# Altium footprint library MLACHP_P.PCBLIB: 129 footprints (part 6 of 9)
Each footprint in its own frame and in the unit in brackets; x right, y up, seen from the top. Pads: shape width x height; smd on the part's side, far side on the other; paste and mask are expansions set on the pad; w line width, h text height; cw(c..) or ccw(c..) is an arc to the next point about the centre after c.
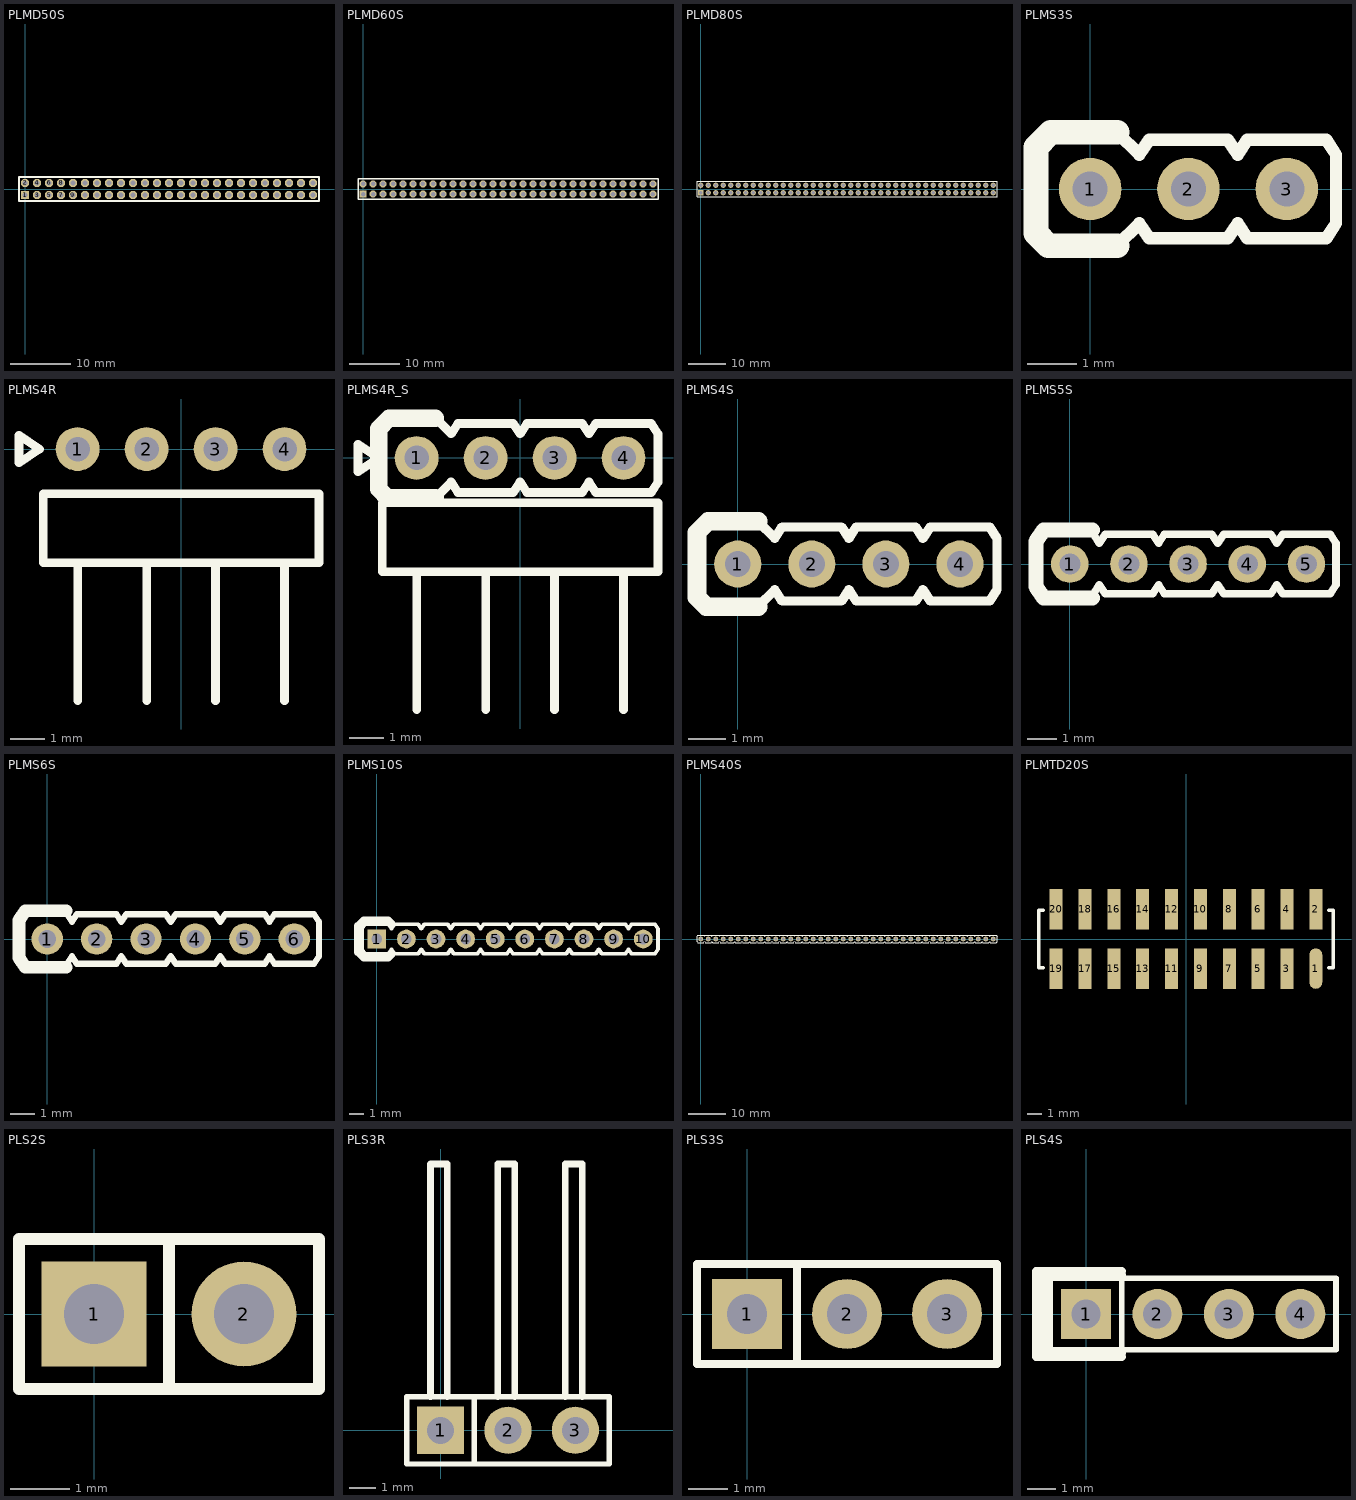
[diagram p5: the footprints below, top view; thin cyan lines are the x and y axes]

## PLMD50S [mm]
pads (50):
  rect 1.4x1.4 hole 0.9: 1(0,-1)
  round 1.4 hole 0.9: 2(0,1) 3(2,-1) 4(2,1) 5(4,-1) 6(4,1) 7(6,-1) 8(6,1) 9(8,-1) 10(8,1) 11(10,-1) 12(10,1) 13(12,-1) 14(12,1) 15(14,-1) 16(14,1) 17(16,-1) 18(16,1) 19(18,-1) 20(18,1) 21(20,-1) 22(20,1) 23(22,-1) 24(22,1) 25(24,-1) 26(24,1) 27(26,-1) 28(26,1) 29(28,-1) 30(28,1) 31(30,-1) 32(30,1) 33(32,-1) 34(32,1) 35(34,-1) 36(34,1) 37(36,-1) 38(36,1) 39(38,-1) 40(38,1) 41(40,-1) 42(40,1) 43(42,-1) 44(42,1) 45(44,-1) 46(44,1) 47(46,-1) 48(46,1) 49(48,-1) 50(48,1)
TopOverlay:
  lines w0.254: -1,-2 -1,2 39,2 49,2 49,-2 39,-2 -1,-2
3D body: height 2, standoff 0, extent 39,-2 49,2
3D body: height 6, standoff -2.8, extent 39.75,0.75 40.25,1.25
3D body: height 6, standoff -2.8, extent 39.75,-1.25 40.25,-0.75
3D body: height 6, standoff -2.8, extent 41.75,-1.25 42.25,-0.75
3D body: height 6, standoff -2.8, extent 41.75,0.75 42.25,1.25
3D body: height 6, standoff -2.8, extent 43.75,-1.25 44.25,-0.75
3D body: height 6, standoff -2.8, extent 43.75,0.75 44.25,1.25
3D body: height 6, standoff -2.8, extent 45.75,-1.25 46.25,-0.75
3D body: height 6, standoff -2.8, extent 45.75,0.75 46.25,1.25
3D body: height 6, standoff -2.8, extent 47.75,-1.25 48.25,-0.75
3D body: height 6, standoff -2.8, extent 47.75,0.75 48.25,1.25
3D body: height 6, standoff -2.8, extent 37.75,-1.25 38.25,-0.75
3D body: height 6, standoff -2.8, extent 37.75,0.75 38.25,1.25
3D body: height 6, standoff -2.8, extent 35.75,-1.25 36.25,-0.75
3D body: height 6, standoff -2.8, extent 35.75,0.75 36.25,1.25
3D body: height 6, standoff -2.8, extent 33.75,-1.25 34.25,-0.75
3D body: height 6, standoff -2.8, extent 33.75,0.75 34.25,1.25
3D body: height 6, standoff -2.8, extent 31.75,-1.25 32.25,-0.75
3D body: height 6, standoff -2.8, extent 31.75,0.75 32.25,1.25
3D body: height 6, standoff -2.8, extent 29.75,-1.25 30.25,-0.75
3D body: height 6, standoff -2.8, extent 29.75,0.75 30.25,1.25
3D body: height 6, standoff -2.8, extent 27.75,-1.25 28.25,-0.75
3D body: height 6, standoff -2.8, extent 27.75,0.75 28.25,1.25
3D body: height 6, standoff -2.8, extent 25.75,-1.25 26.25,-0.75
3D body: height 6, standoff -2.8, extent 25.75,0.75 26.25,1.25
3D body: height 6, standoff -2.8, extent 23.75,0.75 24.25,1.25
3D body: height 6, standoff -2.8, extent 23.75,-1.25 24.25,-0.75
3D body: height 6, standoff -2.8, extent 21.75,0.75 22.25,1.25
3D body: height 6, standoff -2.8, extent 21.75,-1.25 22.25,-0.75
3D body: height 6, standoff -2.8, extent 19.75,0.75 20.25,1.25
3D body: height 6, standoff -2.8, extent 19.75,-1.25 20.25,-0.75
3D body: height 6, standoff -2.8, extent 17.75,0.75 18.25,1.25
3D body: height 6, standoff -2.8, extent 17.75,-1.25 18.25,-0.75
3D body: height 6, standoff -2.8, extent 15.75,0.75 16.25,1.25
3D body: height 6, standoff -2.8, extent 15.75,-1.25 16.25,-0.75
3D body: height 6, standoff -2.8, extent 13.75,0.75 14.25,1.25
3D body: height 6, standoff -2.8, extent 13.75,-1.25 14.25,-0.75
3D body: height 6, standoff -2.8, extent 11.75,0.75 12.25,1.25
3D body: height 6, standoff -2.8, extent 11.75,-1.25 12.25,-0.75
3D body: height 6, standoff -2.8, extent 9.75,0.75 10.25,1.25
3D body: height 6, standoff -2.8, extent 9.75,-1.25 10.25,-0.75
3D body: height 6, standoff -2.8, extent 7.75,0.75 8.25,1.25
3D body: height 6, standoff -2.8, extent 7.75,-1.25 8.25,-0.75
3D body: height 6, standoff -2.8, extent 5.75,0.75 6.25,1.25
3D body: height 6, standoff -2.8, extent 5.75,-1.25 6.25,-0.75
3D body: height 6, standoff -2.8, extent 3.75,0.75 4.25,1.25
3D body: height 6, standoff -2.8, extent 3.75,-1.25 4.25,-0.75
3D body: height 6, standoff -2.8, extent 1.75,0.75 2.25,1.25
3D body: height 6, standoff -2.8, extent 1.75,-1.25 2.25,-0.75
3D body: height 6, standoff -2.8, extent -0.25,-1.25 0.25,-0.75
3D body: height 6, standoff -2.8, extent -0.25,0.75 0.25,1.25
3D body: height 2, standoff 0, extent -1,-2 39,2

## PLMD60S [mm]
pads (60):
  rect 1.4x1.4 hole 0.9: 1(0,-1)
  round 1.4 hole 0.9: 2(0,1) 3(2,-1) 4(2,1) 5(4,-1) 6(4,1) 7(6,-1) 8(6,1) 9(8,-1) 10(8,1) 11(10,-1) 12(10,1) 13(12,-1) 14(12,1) 15(14,-1) 16(14,1) 17(16,-1) 18(16,1) 19(18,-1) 20(18,1) 21(20,-1) 22(20,1) 23(22,-1) 24(22,1) 25(24,-1) 26(24,1) 27(26,-1) 28(26,1) 29(28,-1) 30(28,1) 31(30,-1) 32(30,1) 33(32,-1) 34(32,1) 35(34,-1) 36(34,1) 37(36,-1) 38(36,1) 39(38,-1) 40(38,1) 41(40,-1) 42(40,1) 43(42,-1) 44(42,1) 45(44,-1) 46(44,1) 47(46,-1) 48(46,1) 49(48,-1) 50(48,1) 51(50,-1) 52(50,1) 53(52,-1) 54(52,1) 55(54,-1) 56(54,1) 57(56,-1) 58(56,1) 59(58,-1) 60(58,1)
TopOverlay:
  lines w0.254: -1,-2 -1,2 39,2 59,2 59,-2 39,-2 -1,-2
3D body: height 2, standoff 0, extent 39,-2 59,2
3D body: height 6, standoff -2.8, extent 39.75,0.75 40.25,1.25
3D body: height 6, standoff -2.8, extent 39.75,-1.25 40.25,-0.75
3D body: height 6, standoff -2.8, extent 41.75,-1.25 42.25,-0.75
3D body: height 6, standoff -2.8, extent 41.75,0.75 42.25,1.25
3D body: height 6, standoff -2.8, extent 43.75,-1.25 44.25,-0.75
3D body: height 6, standoff -2.8, extent 43.75,0.75 44.25,1.25
3D body: height 6, standoff -2.8, extent 45.75,-1.25 46.25,-0.75
3D body: height 6, standoff -2.8, extent 45.75,0.75 46.25,1.25
3D body: height 6, standoff -2.8, extent 47.75,-1.25 48.25,-0.75
3D body: height 6, standoff -2.8, extent 47.75,0.75 48.25,1.25
3D body: height 6, standoff -2.8, extent 49.75,-1.25 50.25,-0.75
3D body: height 6, standoff -2.8, extent 49.75,0.75 50.25,1.25
3D body: height 6, standoff -2.8, extent 51.75,-1.25 52.25,-0.75
3D body: height 6, standoff -2.8, extent 51.75,0.75 52.25,1.25
3D body: height 6, standoff -2.8, extent 53.75,-1.25 54.25,-0.75
3D body: height 6, standoff -2.8, extent 53.75,0.75 54.25,1.25
3D body: height 6, standoff -2.8, extent 55.75,-1.25 56.25,-0.75
3D body: height 6, standoff -2.8, extent 55.75,0.75 56.25,1.25
3D body: height 6, standoff -2.8, extent 57.75,-1.25 58.25,-0.75
3D body: height 6, standoff -2.8, extent 57.75,0.75 58.25,1.25
3D body: height 6, standoff -2.8, extent 37.75,-1.25 38.25,-0.75
3D body: height 6, standoff -2.8, extent 37.75,0.75 38.25,1.25
3D body: height 6, standoff -2.8, extent 35.75,-1.25 36.25,-0.75
3D body: height 6, standoff -2.8, extent 35.75,0.75 36.25,1.25
3D body: height 6, standoff -2.8, extent 33.75,-1.25 34.25,-0.75
3D body: height 6, standoff -2.8, extent 33.75,0.75 34.25,1.25
3D body: height 6, standoff -2.8, extent 31.75,-1.25 32.25,-0.75
3D body: height 6, standoff -2.8, extent 31.75,0.75 32.25,1.25
3D body: height 6, standoff -2.8, extent 29.75,-1.25 30.25,-0.75
3D body: height 6, standoff -2.8, extent 29.75,0.75 30.25,1.25
3D body: height 6, standoff -2.8, extent 27.75,-1.25 28.25,-0.75
3D body: height 6, standoff -2.8, extent 27.75,0.75 28.25,1.25
3D body: height 6, standoff -2.8, extent 25.75,-1.25 26.25,-0.75
3D body: height 6, standoff -2.8, extent 25.75,0.75 26.25,1.25
3D body: height 6, standoff -2.8, extent 23.75,0.75 24.25,1.25
3D body: height 6, standoff -2.8, extent 23.75,-1.25 24.25,-0.75
3D body: height 6, standoff -2.8, extent 21.75,0.75 22.25,1.25
3D body: height 6, standoff -2.8, extent 21.75,-1.25 22.25,-0.75
3D body: height 6, standoff -2.8, extent 19.75,0.75 20.25,1.25
3D body: height 6, standoff -2.8, extent 19.75,-1.25 20.25,-0.75
3D body: height 6, standoff -2.8, extent 17.75,0.75 18.25,1.25
3D body: height 6, standoff -2.8, extent 17.75,-1.25 18.25,-0.75
3D body: height 6, standoff -2.8, extent 15.75,0.75 16.25,1.25
3D body: height 6, standoff -2.8, extent 15.75,-1.25 16.25,-0.75
3D body: height 6, standoff -2.8, extent 13.75,0.75 14.25,1.25
3D body: height 6, standoff -2.8, extent 13.75,-1.25 14.25,-0.75
3D body: height 6, standoff -2.8, extent 11.75,0.75 12.25,1.25
3D body: height 6, standoff -2.8, extent 11.75,-1.25 12.25,-0.75
3D body: height 6, standoff -2.8, extent 9.75,0.75 10.25,1.25
3D body: height 6, standoff -2.8, extent 9.75,-1.25 10.25,-0.75
3D body: height 6, standoff -2.8, extent 7.75,0.75 8.25,1.25
3D body: height 6, standoff -2.8, extent 7.75,-1.25 8.25,-0.75
3D body: height 6, standoff -2.8, extent 5.75,0.75 6.25,1.25
3D body: height 6, standoff -2.8, extent 5.75,-1.25 6.25,-0.75
3D body: height 6, standoff -2.8, extent 3.75,0.75 4.25,1.25
3D body: height 6, standoff -2.8, extent 3.75,-1.25 4.25,-0.75
3D body: height 6, standoff -2.8, extent 1.75,0.75 2.25,1.25
3D body: height 6, standoff -2.8, extent 1.75,-1.25 2.25,-0.75
3D body: height 6, standoff -2.8, extent -0.25,-1.25 0.25,-0.75
3D body: height 6, standoff -2.8, extent -0.25,0.75 0.25,1.25
3D body: height 2, standoff 0, extent -1,-2 39,2

## PLMD80S [mm]
pads (80):
  rect 1.4x1.4 hole 0.9: 1(0,-1)
  round 1.4 hole 0.9: 2(0,1) 3(2,-1) 4(2,1) 5(4,-1) 6(4,1) 7(6,-1) 8(6,1) 9(8,-1) 10(8,1) 11(10,-1) 12(10,1) 13(12,-1) 14(12,1) 15(14,-1) 16(14,1) 17(16,-1) 18(16,1) 19(18,-1) 20(18,1) 21(20,-1) 22(20,1) 23(22,-1) 24(22,1) 25(24,-1) 26(24,1) 27(26,-1) 28(26,1) 29(28,-1) 30(28,1) 31(30,-1) 32(30,1) 33(32,-1) 34(32,1) 35(34,-1) 36(34,1) 37(36,-1) 38(36,1) 39(38,-1) 40(38,1) 41(40,-1) 42(40,1) 43(42,-1) 44(42,1) 45(44,-1) 46(44,1) 47(46,-1) 48(46,1) 49(48,-1) 50(48,1) 51(50,-1) 52(50,1) 53(52,-1) 54(52,1) 55(54,-1) 56(54,1) 57(56,-1) 58(56,1) 59(58,-1) 60(58,1) 61(60,-1) 62(60,1) 63(62,-1) 64(62,1) 65(64,-1) 66(64,1) 67(66,-1) 68(66,1) 69(68,-1) 70(68,1) 71(70,-1) 72(70,1) 73(72,-1) 74(72,1) 75(74,-1) 76(74,1) 77(76,-1) 78(76,1) 79(78,-1) 80(78,1)
TopOverlay:
  lines w0.254: -1,-2 39,-2 79,-2 79,2 39,2 -1,2 -1,-2
3D body: height 2, standoff 0, extent -1,-2 39,2
3D body: height 6, standoff -2.8, extent -0.25,0.75 0.25,1.25
3D body: height 6, standoff -2.8, extent -0.25,-1.25 0.25,-0.75
3D body: height 6, standoff -2.8, extent 1.75,-1.25 2.25,-0.75
3D body: height 6, standoff -2.8, extent 1.75,0.75 2.25,1.25
3D body: height 6, standoff -2.8, extent 3.75,-1.25 4.25,-0.75
3D body: height 6, standoff -2.8, extent 3.75,0.75 4.25,1.25
3D body: height 6, standoff -2.8, extent 5.75,-1.25 6.25,-0.75
3D body: height 6, standoff -2.8, extent 5.75,0.75 6.25,1.25
3D body: height 6, standoff -2.8, extent 7.75,-1.25 8.25,-0.75
3D body: height 6, standoff -2.8, extent 7.75,0.75 8.25,1.25
3D body: height 6, standoff -2.8, extent 9.75,-1.25 10.25,-0.75
3D body: height 6, standoff -2.8, extent 9.75,0.75 10.25,1.25
3D body: height 6, standoff -2.8, extent 11.75,-1.25 12.25,-0.75
3D body: height 6, standoff -2.8, extent 11.75,0.75 12.25,1.25
3D body: height 6, standoff -2.8, extent 13.75,-1.25 14.25,-0.75
3D body: height 6, standoff -2.8, extent 13.75,0.75 14.25,1.25
3D body: height 6, standoff -2.8, extent 15.75,-1.25 16.25,-0.75
3D body: height 6, standoff -2.8, extent 15.75,0.75 16.25,1.25
3D body: height 6, standoff -2.8, extent 17.75,-1.25 18.25,-0.75
3D body: height 6, standoff -2.8, extent 17.75,0.75 18.25,1.25
3D body: height 6, standoff -2.8, extent 19.75,-1.25 20.25,-0.75
3D body: height 6, standoff -2.8, extent 19.75,0.75 20.25,1.25
3D body: height 6, standoff -2.8, extent 21.75,-1.25 22.25,-0.75
3D body: height 6, standoff -2.8, extent 21.75,0.75 22.25,1.25
3D body: height 6, standoff -2.8, extent 23.75,-1.25 24.25,-0.75
3D body: height 6, standoff -2.8, extent 23.75,0.75 24.25,1.25
3D body: height 6, standoff -2.8, extent 25.75,0.75 26.25,1.25
3D body: height 6, standoff -2.8, extent 25.75,-1.25 26.25,-0.75
3D body: height 6, standoff -2.8, extent 27.75,0.75 28.25,1.25
3D body: height 6, standoff -2.8, extent 27.75,-1.25 28.25,-0.75
3D body: height 6, standoff -2.8, extent 29.75,0.75 30.25,1.25
3D body: height 6, standoff -2.8, extent 29.75,-1.25 30.25,-0.75
3D body: height 6, standoff -2.8, extent 31.75,0.75 32.25,1.25
3D body: height 6, standoff -2.8, extent 31.75,-1.25 32.25,-0.75
3D body: height 6, standoff -2.8, extent 33.75,0.75 34.25,1.25
3D body: height 6, standoff -2.8, extent 33.75,-1.25 34.25,-0.75
3D body: height 6, standoff -2.8, extent 35.75,0.75 36.25,1.25
3D body: height 6, standoff -2.8, extent 35.75,-1.25 36.25,-0.75
3D body: height 6, standoff -2.8, extent 37.75,0.75 38.25,1.25
3D body: height 6, standoff -2.8, extent 37.75,-1.25 38.25,-0.75
3D body: height 6, standoff -2.8, extent 77.75,-1.25 78.25,-0.75
3D body: height 6, standoff -2.8, extent 77.75,0.75 78.25,1.25
3D body: height 6, standoff -2.8, extent 75.75,-1.25 76.25,-0.75
3D body: height 6, standoff -2.8, extent 75.75,0.75 76.25,1.25
3D body: height 6, standoff -2.8, extent 73.75,-1.25 74.25,-0.75
3D body: height 6, standoff -2.8, extent 73.75,0.75 74.25,1.25
3D body: height 6, standoff -2.8, extent 71.75,-1.25 72.25,-0.75
3D body: height 6, standoff -2.8, extent 71.75,0.75 72.25,1.25
3D body: height 6, standoff -2.8, extent 69.75,-1.25 70.25,-0.75
3D body: height 6, standoff -2.8, extent 69.75,0.75 70.25,1.25
3D body: height 6, standoff -2.8, extent 67.75,-1.25 68.25,-0.75
3D body: height 6, standoff -2.8, extent 67.75,0.75 68.25,1.25
3D body: height 6, standoff -2.8, extent 65.75,-1.25 66.25,-0.75
3D body: height 6, standoff -2.8, extent 65.75,0.75 66.25,1.25
3D body: height 6, standoff -2.8, extent 63.75,0.75 64.25,1.25
3D body: height 6, standoff -2.8, extent 63.75,-1.25 64.25,-0.75
3D body: height 6, standoff -2.8, extent 61.75,0.75 62.25,1.25
3D body: height 6, standoff -2.8, extent 61.75,-1.25 62.25,-0.75
3D body: height 6, standoff -2.8, extent 59.75,0.75 60.25,1.25
3D body: height 6, standoff -2.8, extent 59.75,-1.25 60.25,-0.75
3D body: height 6, standoff -2.8, extent 57.75,0.75 58.25,1.25
3D body: height 6, standoff -2.8, extent 57.75,-1.25 58.25,-0.75
3D body: height 6, standoff -2.8, extent 55.75,0.75 56.25,1.25
3D body: height 6, standoff -2.8, extent 55.75,-1.25 56.25,-0.75
3D body: height 6, standoff -2.8, extent 53.75,0.75 54.25,1.25
3D body: height 6, standoff -2.8, extent 53.75,-1.25 54.25,-0.75
3D body: height 6, standoff -2.8, extent 51.75,0.75 52.25,1.25
3D body: height 6, standoff -2.8, extent 51.75,-1.25 52.25,-0.75
3D body: height 6, standoff -2.8, extent 49.75,0.75 50.25,1.25
3D body: height 6, standoff -2.8, extent 49.75,-1.25 50.25,-0.75
3D body: height 6, standoff -2.8, extent 47.75,0.75 48.25,1.25
3D body: height 6, standoff -2.8, extent 47.75,-1.25 48.25,-0.75
3D body: height 6, standoff -2.8, extent 45.75,0.75 46.25,1.25
3D body: height 6, standoff -2.8, extent 45.75,-1.25 46.25,-0.75
3D body: height 6, standoff -2.8, extent 43.75,0.75 44.25,1.25
3D body: height 6, standoff -2.8, extent 43.75,-1.25 44.25,-0.75
3D body: height 6, standoff -2.8, extent 41.75,0.75 42.25,1.25
3D body: height 6, standoff -2.8, extent 41.75,-1.25 42.25,-0.75
3D body: height 6, standoff -2.8, extent 39.75,-1.25 40.25,-0.75
3D body: height 6, standoff -2.8, extent 39.75,0.75 40.25,1.25
3D body: height 2, standoff 0, extent 39,-2 79,2

## PLMS3S [mil]
pads (3):
  round 50 hole 28: 1(0,0) 2(78.74,0) 3(157.48,0)
TopOverlay:
  lines w10: 21.65,-45.28 39.37,-27.56 47.24,-39.37 110.24,-39.37 118.11,-27.56 125.98,-39.37 188.98,-39.37 196.85,-27.56 196.85,27.56 188.98,39.37 125.98,39.37 118.11,27.56 110.24,39.37 47.24,39.37 39.37,27.56 21.65,45.28
  lines w19.68: 21.65,-45.28 -33.46,-45.28 -43.31,-35.43 -43.31,33.46 -31.5,45.28 21.65,45.28
3D body: height 78.74, standoff 0, extent -39.37,-39.37 196.85,39.37
3D body: height 236.22, standoff -110.24, extent 147.64,-9.84 167.32,9.84
3D body: height 236.22, standoff -110.24, extent 68.9,-9.84 88.58,9.84
3D body: height 236.22, standoff -110.24, extent -9.84,-9.84 9.84,9.84

## PLMS4R [mil]
pads (4):
  round 50 hole 28: 1(-118.11,0) 2(-39.37,0) 3(39.37,0) 4(118.11,0)
TopOverlay:
  lines w9.84: -118.11,-287.4 -118.11,-129.92 ; -39.37,-287.4 -39.37,-129.92 ; 39.37,-287.4 39.37,-129.92 ; 118.11,-287.4 118.11,-129.92 ; -185.04,-15.75 -185.04,15.75 -161.42,0 -185.04,-15.75 ; -157.48,-129.92 -157.48,-51.18 157.48,-51.18 157.48,-129.92 -157.48,-129.92
3D body: height 29.53, standoff -110.24, extent 108.27,-9.84 127.95,9.84
3D body: height 29.53, standoff 9.84, extent 108.27,-291.34 127.95,9.84
3D body: height 29.53, standoff -110.24, extent 29.53,-9.84 49.21,9.84
3D body: height 29.53, standoff 9.84, extent 29.53,-291.34 49.21,9.84
3D body: height 29.53, standoff -110.24, extent -49.21,-9.84 -29.53,9.84
3D body: height 29.53, standoff 9.84, extent -49.21,-291.34 -29.53,9.84
3D body: height 29.53, standoff 9.84, extent -127.95,-291.34 -108.27,9.84
3D body: height 29.53, standoff -110.24, extent -127.95,-9.84 -108.27,9.84
3D body: height 78.74, standoff 0, extent -157.48,-129.92 157.48,-51.18

## PLMS4R_S [mil]
pads (4):
  round 50 hole 28: 1(-118.11,0) 2(-39.37,0) 3(39.37,0) 4(118.11,0)
TopOverlay:
  lines w9.84: -118.11,-287.4 -118.11,-129.92 ; -39.37,-287.4 -39.37,-129.92 ; 39.37,-287.4 39.37,-129.92 ; 118.11,-287.4 118.11,-129.92 ; -185.04,-15.75 -185.04,15.75 -161.42,0 -185.04,-15.75 ; -157.48,-129.92 -157.48,-51.18 157.48,-51.18 157.48,-129.92 -157.48,-129.92
  lines w10: -96.46,-45.28 -78.74,-27.56 -70.87,-39.37 -7.87,-39.37 0,-27.56 7.87,-39.37 70.87,-39.37 78.74,-27.56 86.61,-39.37 149.61,-39.37 157.48,-27.56 157.48,27.56 149.61,39.37 86.61,39.37 78.74,27.56 70.87,39.37 7.87,39.37 0,27.56 -7.87,39.37 -70.87,39.37 -78.74,27.56 -96.46,45.28
  lines w19.68: -96.46,-45.28 -151.57,-45.28 -161.42,-35.43 -161.42,33.46 -149.61,45.28 -96.46,45.28
3D body: height 236.22, standoff -110.24, extent 108.27,-9.84 127.95,9.84
3D body: height 236.22, standoff -110.24, extent -127.95,-9.84 -108.27,9.84
3D body: height 236.22, standoff -110.24, extent -49.21,-9.84 -29.53,9.84
3D body: height 236.22, standoff -110.24, extent 29.53,-9.84 49.21,9.84
3D body: height 78.74, standoff 0, extent -157.48,-39.37 157.48,39.37
3D body: height 29.53, standoff -110.24, extent 108.27,-9.84 127.95,9.84
3D body: height 29.53, standoff 9.84, extent 108.27,-291.34 127.95,9.84
3D body: height 29.53, standoff -110.24, extent 29.53,-9.84 49.21,9.84
3D body: height 29.53, standoff 9.84, extent 29.53,-291.34 49.21,9.84
3D body: height 29.53, standoff -110.24, extent -49.21,-9.84 -29.53,9.84
3D body: height 29.53, standoff 9.84, extent -49.21,-291.34 -29.53,9.84
3D body: height 29.53, standoff 9.84, extent -127.95,-291.34 -108.27,9.84
3D body: height 29.53, standoff -110.24, extent -127.95,-9.84 -108.27,9.84
3D body: height 78.74, standoff 0, extent -157.48,-129.92 157.48,-51.18

## PLMS4S [mm]
pads (4):
  round 1.27 hole 0.7: 1(0,0) 2(2,0) 3(4,0) 4(6,0)
TopOverlay:
  lines w0.254: 0.55,-1.15 1,-0.7 1.2,-1 2.8,-1 3,-0.7 3.2,-1 4.8,-1 5,-0.7 5.2,-1 6.8,-1 7,-0.7 7,0.7 6.8,1 5.2,1 5,0.7 4.8,1 3.2,1 3,0.7 2.8,1 1.2,1 1,0.7 0.55,1.15
  lines w0.5: 0.55,-1.15 -0.85,-1.15 -1.1,-0.9 -1.1,0.85 -0.8,1.15 0.55,1.15
3D body: height 2, standoff 0, extent -1,-1 7,1
3D body: height 6, standoff -2.8, extent 3.75,-0.25 4.25,0.25
3D body: height 6, standoff -2.8, extent 1.75,-0.25 2.25,0.25
3D body: height 6, standoff -2.8, extent -0.25,-0.25 0.25,0.25
3D body: height 6, standoff -2.8, extent 5.75,-0.25 6.25,0.25

## PLMS5S [mil]
pads (5):
  round 50 hole 28: 1(0,0) 2(78.74,0) 3(157.48,0) 4(236.22,0) 5(314.96,0)
TopOverlay:
  lines w10: 31.5,-39.37 39.37,-27.56 47.24,-39.37 110.24,-39.37 118.11,-27.56 125.98,-39.37 188.98,-39.37 196.85,-27.56 204.72,-39.37 267.72,-39.37 275.59,-27.56 283.46,-39.37 346.46,-39.37 354.33,-27.56 354.33,27.56 346.46,39.37 283.46,39.37 275.59,27.56 267.72,39.37 204.72,39.37 196.85,27.56 188.98,39.37 125.98,39.37 118.11,27.56 110.24,39.37 47.24,39.37 39.37,27.56 31.5,39.37
  lines w20: 30,-45 -35,-45 -45,-30 -45,30 -35,45 30,45
3D body: height 236.22, standoff -110.24, extent 305.12,-9.84 324.8,9.84
3D body: height 236.22, standoff -110.24, extent 226.38,-9.84 246.06,9.84
3D body: height 236.22, standoff -110.24, extent -9.84,-9.84 9.84,9.84
3D body: height 236.22, standoff -110.24, extent 68.9,-9.84 88.58,9.84
3D body: height 236.22, standoff -110.24, extent 147.64,-9.84 167.32,9.84
3D body: height 78.74, standoff 0, extent -39.37,-39.37 354.33,39.37

## PLMS6S [mil]
pads (6):
  round 50 hole 28: 1(0,0) 2(78.74,0) 3(157.48,0) 4(236.22,0) 5(314.96,0) 6(393.7,0)
TopOverlay:
  lines w10: 31.5,-39.37 39.37,-27.56 47.24,-39.37 110.24,-39.37 118.11,-27.56 125.98,-39.37 188.98,-39.37 196.85,-27.56 204.72,-39.37 267.72,-39.37 275.59,-27.56 283.46,-39.37 346.46,-39.37 354.33,-27.56 362.2,-39.37 425.2,-39.37 433.07,-27.56 433.07,27.56 425.2,39.37 362.2,39.37 354.33,27.56 346.46,39.37 283.46,39.37 275.59,27.56 267.72,39.37 204.72,39.37 196.85,27.56 188.98,39.37 125.98,39.37 118.11,27.56 110.24,39.37 47.24,39.37 39.37,27.56 31.5,39.37
  lines w20: 30,-45 -35,-45 -45,-30 -45,30 -35,45 30,45
3D body: height 236.22, standoff -110.24, extent 383.86,-9.84 403.54,9.84
3D body: height 236.22, standoff -110.24, extent 305.12,-9.84 324.8,9.84
3D body: height 236.22, standoff -110.24, extent 226.38,-9.84 246.06,9.84
3D body: height 236.22, standoff -110.24, extent -9.84,-9.84 9.84,9.84
3D body: height 236.22, standoff -110.24, extent 68.9,-9.84 88.58,9.84
3D body: height 236.22, standoff -110.24, extent 147.64,-9.84 167.32,9.84
3D body: height 78.74, standoff 0, extent -39.37,-39.37 433.07,39.37

## PLMS10S [mil]
pads (10):
  rect 50x50 hole 28: 1(0,0)
  round 50 hole 28: 2(78.74,0) 3(157.48,0) 4(236.22,0) 5(314.96,0) 6(393.7,0) 7(472.44,0) 8(551.18,0) 9(629.92,0) 10(708.66,0)
TopOverlay:
  lines w10: -39.37,-27.56 -31.5,-39.37 31.5,-39.37 39.37,-27.56 47.24,-39.37 110.24,-39.37 118.11,-27.56 125.98,-39.37 188.98,-39.37 196.85,-27.56 204.72,-39.37 267.72,-39.37 275.59,-27.56 283.46,-39.37 346.46,-39.37 354.33,-27.56 362.2,-39.37 425.2,-39.37 433.07,-27.56 440.94,-39.37 503.94,-39.37 511.81,-27.56 519.69,-39.37 582.68,-39.37 590.55,-27.56 598.43,-39.37 661.42,-39.37 669.29,-27.56 677.17,-39.37 740.16,-39.37 748.03,-27.56 748.03,27.56 740.16,39.37 677.17,39.37 669.29,27.56 661.42,39.37 598.43,39.37 590.55,27.56 582.68,39.37 519.69,39.37 511.81,27.56 503.94,39.37 440.94,39.37 433.07,27.56 425.2,39.37 362.2,39.37 354.33,27.56 346.46,39.37 283.46,39.37 275.59,27.56 267.72,39.37 204.72,39.37 196.85,27.56 188.98,39.37 125.98,39.37 118.11,27.56 110.24,39.37 47.24,39.37 39.37,27.56 31.5,39.37 -31.5,39.37 -39.37,27.56 -39.37,-27.56
  lines w20: 40,-40 30,-50 -35,-50 -50,-35 -50,35 -35,50 30,50 40,40
3D body: height 78.74, standoff 0, extent -39.37,-39.37 748.03,39.37
3D body: height 236.22, standoff -110.24, extent 147.64,-9.84 167.32,9.84
3D body: height 236.22, standoff -110.24, extent 68.9,-9.84 88.58,9.84
3D body: height 236.22, standoff -110.24, extent -9.84,-9.84 9.84,9.84
3D body: height 236.22, standoff -110.24, extent 226.38,-9.84 246.06,9.84
3D body: height 236.22, standoff -110.24, extent 305.12,-9.84 324.8,9.84
3D body: height 236.22, standoff -110.24, extent 383.86,-9.84 403.54,9.84
3D body: height 236.22, standoff -110.24, extent 462.6,-9.84 482.28,9.84
3D body: height 236.22, standoff -110.24, extent 541.34,-9.84 561.02,9.84
3D body: height 236.22, standoff -110.24, extent 620.08,-9.84 639.76,9.84
3D body: height 236.22, standoff -110.24, extent 698.82,-9.84 718.5,9.84

## PLMS40S [mil]
pads (40):
  round 50 hole 28: 1(0,0) 2(78.74,0) 3(157.48,0) 4(236.22,0) 5(314.96,0) 6(393.7,0) 7(472.44,0) 8(551.18,0) 9(629.92,0) 10(708.66,0) 11(787.4,0) 12(866.14,0) 13(944.88,0) 14(1023.62,0) 15(1102.36,0) 16(1181.1,0) 17(1259.84,0) 18(1338.58,0) 19(1417.32,0) 20(1496.06,0) 21(1574.8,0) 22(1653.54,0) 23(1732.28,0) 24(1811.02,0) 25(1889.76,0) 26(1968.5,0) 27(2047.24,0) 28(2125.98,0) 29(2204.72,0) 30(2283.46,0) 31(2362.2,0) 32(2440.94,0) 33(2519.68,0) 34(2598.43,0) 35(2677.17,0) 36(2755.91,0) 37(2834.65,0) 38(2913.39,0) 39(2992.13,0) 40(3070.87,0)
TopOverlay:
  drawing of 242 lines, arcs and shapes, not listed
3D body: height 236.22, standoff -110.24, extent 2509.84,-9.84 2529.53,9.84
3D body: height 236.22, standoff -110.24, extent 2431.1,-9.84 2450.79,9.84
3D body: height 236.22, standoff -110.24, extent 2352.36,-9.84 2372.05,9.84
3D body: height 236.22, standoff -110.24, extent 2588.58,-9.84 2608.27,9.84
3D body: height 236.22, standoff -110.24, extent 2667.32,-9.84 2687.01,9.84
3D body: height 236.22, standoff -110.24, extent 2746.06,-9.84 2765.75,9.84
3D body: height 236.22, standoff -110.24, extent 2824.8,-9.84 2844.49,9.84
3D body: height 236.22, standoff -110.24, extent 2903.54,-9.84 2923.23,9.84
3D body: height 236.22, standoff -110.24, extent 2982.28,-9.84 3001.97,9.84
3D body: height 236.22, standoff -110.24, extent 3061.02,-9.84 3080.71,9.84
3D body: height 236.22, standoff -110.24, extent 1722.44,-9.84 1742.13,9.84
3D body: height 236.22, standoff -110.24, extent 1643.7,-9.84 1663.39,9.84
3D body: height 236.22, standoff -110.24, extent 1564.96,-9.84 1584.65,9.84
3D body: height 236.22, standoff -110.24, extent 1801.18,-9.84 1820.87,9.84
3D body: height 236.22, standoff -110.24, extent 1879.92,-9.84 1899.61,9.84
3D body: height 236.22, standoff -110.24, extent 1958.66,-9.84 1978.35,9.84
3D body: height 236.22, standoff -110.24, extent 2037.4,-9.84 2057.09,9.84
3D body: height 236.22, standoff -110.24, extent 2116.14,-9.84 2135.83,9.84
3D body: height 236.22, standoff -110.24, extent 2194.88,-9.84 2214.57,9.84
3D body: height 236.22, standoff -110.24, extent 2273.62,-9.84 2293.31,9.84
3D body: height 236.22, standoff -110.24, extent 935.04,-9.84 954.72,9.84
3D body: height 236.22, standoff -110.24, extent 856.3,-9.84 875.98,9.84
3D body: height 236.22, standoff -110.24, extent 777.56,-9.84 797.24,9.84
3D body: height 236.22, standoff -110.24, extent 1013.78,-9.84 1033.46,9.84
3D body: height 236.22, standoff -110.24, extent 1092.52,-9.84 1112.2,9.84
3D body: height 236.22, standoff -110.24, extent 1171.26,-9.84 1190.94,9.84
3D body: height 236.22, standoff -110.24, extent 1250,-9.84 1269.68,9.84
3D body: height 236.22, standoff -110.24, extent 1328.74,-9.84 1348.43,9.84
3D body: height 236.22, standoff -110.24, extent 1407.48,-9.84 1427.17,9.84
3D body: height 236.22, standoff -110.24, extent 1486.22,-9.84 1505.91,9.84
3D body: height 236.22, standoff -110.24, extent 698.82,-9.84 718.5,9.84
3D body: height 236.22, standoff -110.24, extent 620.08,-9.84 639.76,9.84
3D body: height 236.22, standoff -110.24, extent 541.34,-9.84 561.02,9.84
3D body: height 236.22, standoff -110.24, extent 462.6,-9.84 482.28,9.84
3D body: height 236.22, standoff -110.24, extent 383.86,-9.84 403.54,9.84
3D body: height 236.22, standoff -110.24, extent 305.12,-9.84 324.8,9.84
3D body: height 236.22, standoff -110.24, extent 226.38,-9.84 246.06,9.84
3D body: height 236.22, standoff -110.24, extent -9.84,-9.84 9.84,9.84
3D body: height 236.22, standoff -110.24, extent 68.9,-9.84 88.58,9.84
3D body: height 236.22, standoff -110.24, extent 147.64,-9.84 167.32,9.84
3D body: height 78.74, standoff 0, extent -39.37,-39.37 3110.24,39.37

## PLMTD20S [mm]
pads (20):
  oval 0.9x2.8 smd: 1(9,-2.05)
  rect 0.9x2.8 smd: 2(9,2.05) 3(7,-2.05) 4(7,2.05) 5(5,-2.05) 6(5,2.05) 7(3,-2.05) 8(3,2.05) 9(1,-2.05) 10(1,2.05) 11(-1,-2.05) 12(-1,2.05) 13(-3,-2.05) 14(-3,2.05) 15(-5,-2.05) 16(-5,2.05) 17(-7,-2.05) 18(-7,2.05) 19(-9,-2.05) 20(-9,2.05)
TopOverlay:
  lines w0.254: -9.9,-2 -10.2,-2 -10.2,2 -9.9,2 ; 9.9,-2 10.2,-2 10.2,2 9.9,2

## PLS2S [mil]
pads (2):
  rect 70x70 hole 40: 1(0,0)
  round 70 hole 40: 2(100,0)
TopOverlay:
  lines w8: 50,-50 50,50 ; -50,-50 -50,50 150,50 150,-50 -50,-50
3D body: height 100, standoff 0, extent -50,-50 150,50
3D body: height 336.22, standoff -118.11, extent -12.6,-12.6 12.6,12.6
3D body: height 336.22, standoff -118.11, extent 87.4,-12.6 112.6,12.6

## PLS3R [mil]
pads (3):
  rect 70x70 hole 40: 1(0,0)
  round 70 hole 40: 2(100,0) 3(200,0)
TopOverlay:
  lines w8: 50,-50 50,50 ; -50,-50 -50,50 250,50 250,-50 -50,-50
  lines w9.84: -15,50 -15,395 10,395 10,50 ; 85,50 85,395 110,395 110,50 ; 185,50 185,395 210,395 210,50
3D body: height 61.81, standoff 36.61, extent 187.4,-12.6 212.6,395.28
3D body: height 61.81, standoff -118.11, extent 187.4,-12.6 212.6,12.6
3D body: height 61.81, standoff 36.61, extent 87.4,-12.6 112.6,395.28
3D body: height 61.81, standoff -118.11, extent 87.4,-12.6 112.6,12.6
3D body: height 61.81, standoff -118.11, extent -12.6,-12.6 12.6,12.6
3D body: height 98.43, standoff 0, extent -50,59.06 250,159.45
3D body: height 61.81, standoff 36.61, extent -12.6,-12.6 12.6,395.28

## PLS3S [mil]
pads (3):
  rect 70x70 hole 40: 1(0,0)
  round 70 hole 40: 2(100,0) 3(200,0)
TopOverlay:
  lines w8: 50,-50 50,50 ; -50,-50 -50,50 250,50 250,-50 -50,-50
3D body: height 100, standoff 0, extent -50,-50 250,50
3D body: height 336.22, standoff -118.11, extent -12.6,-12.6 12.6,12.6
3D body: height 336.22, standoff -118.11, extent 87.4,-12.6 112.6,12.6
3D body: height 336.22, standoff -118.11, extent 187.4,-12.6 212.6,12.6

## PLS4S [mil]
pads (4):
  rect 70x70 hole 40: 1(0,0)
  round 70 hole 40: 2(100,0) 3(200,0) 4(300,0)
TopOverlay:
  lines w8: 50,-50 50,50 ; -50,-50 -50,50 350,50 350,-50 -50,-50
  lines w11.81: 50,-60 -70,-60 -70,60 50,60 ; 50,-55 -60,-55 -60,55 50,55
3D body: height 336.22, standoff -118.11, extent -12.6,-12.6 12.6,12.6
3D body: height 336.22, standoff -118.11, extent 87.4,-12.6 112.6,12.6
3D body: height 336.22, standoff -118.11, extent 187.4,-12.6 212.6,12.6
3D body: height 336.22, standoff -118.11, extent 287.4,-12.6 312.6,12.6
3D body: height 100, standoff 0, extent -50,-50 350,50